# Altium footprint library EsoCore.PcbLib: 105 footprints (part 5 of 7)
Each footprint in its own frame and in the unit in brackets; x right, y up, seen from the top. Pads: shape width x height; smd on the part's side, far side on the other; paste and mask are expansions set on the pad; w line width, h text height; cw(c..) or ccw(c..) is an arc to the next point about the centre after c.
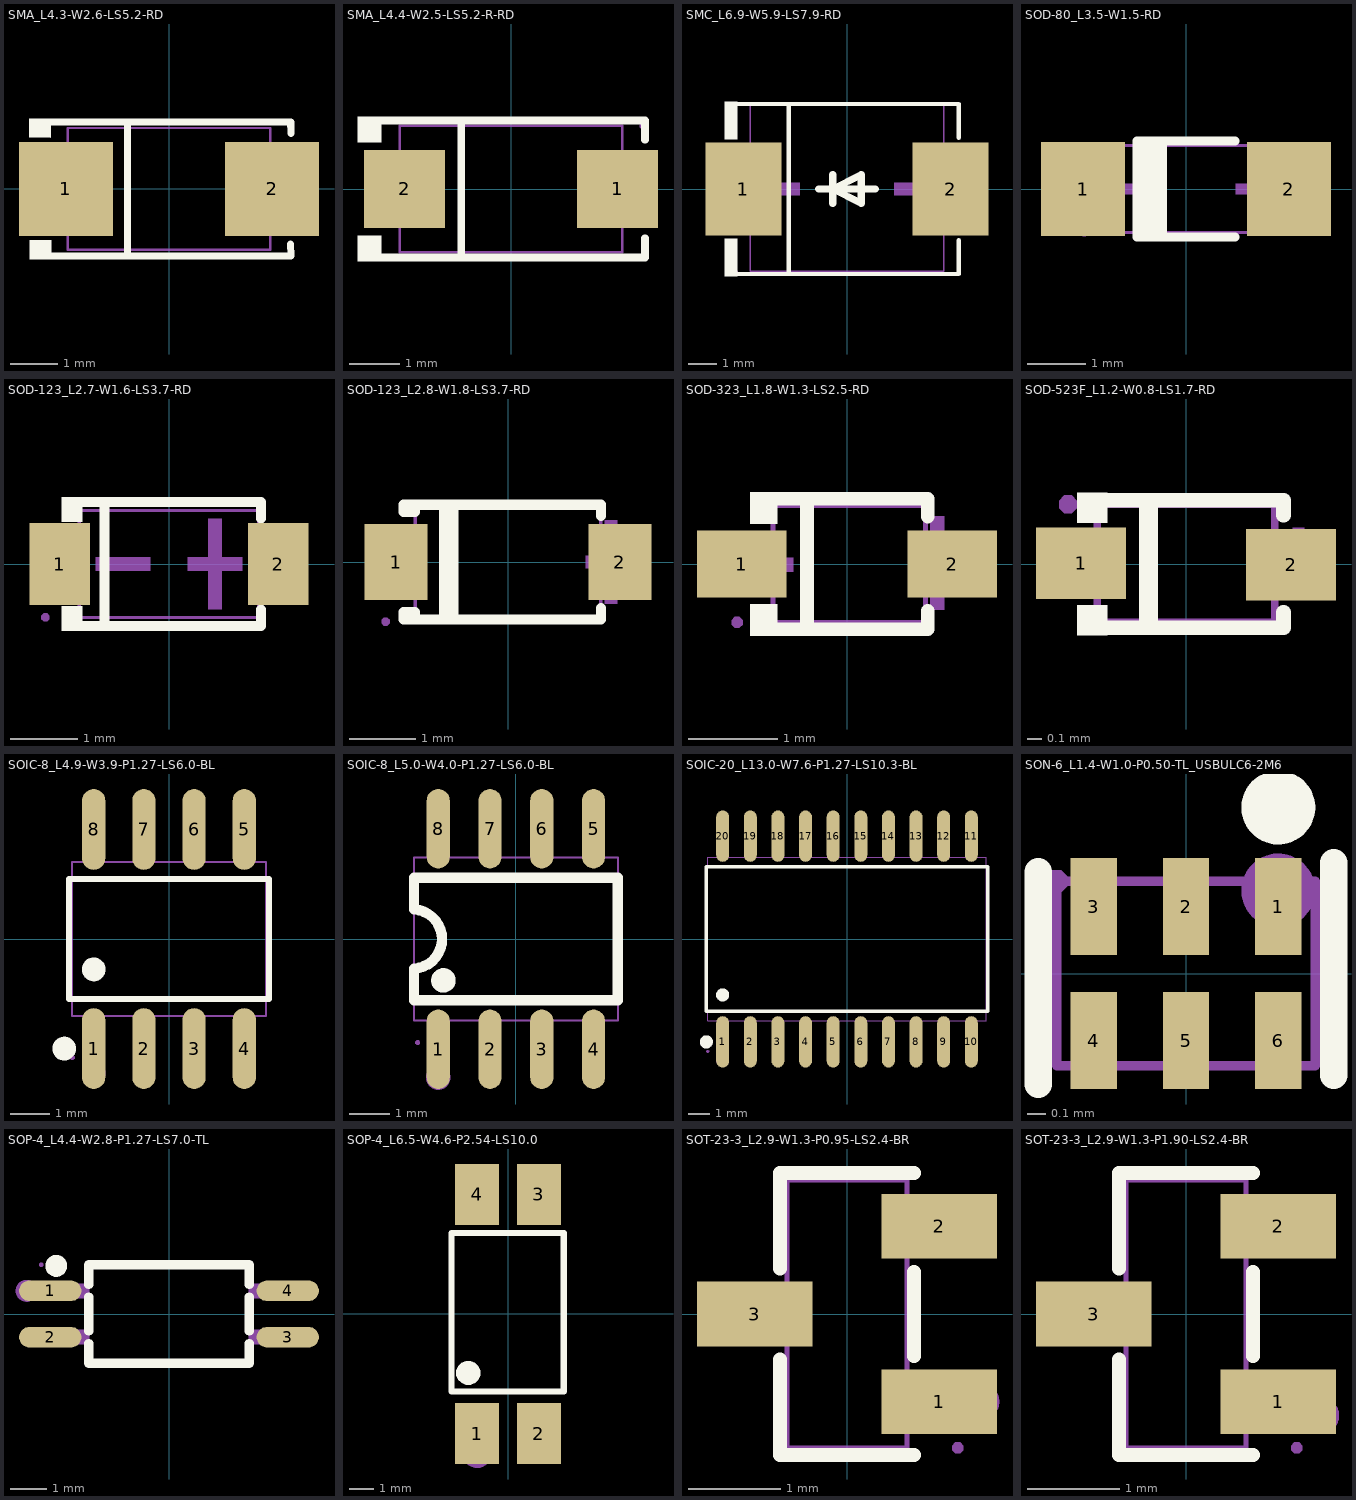
[diagram p4: the footprints below, top view; thin cyan lines are the x and y axes]

## SMA_L4.3-W2.6-LS5.2-RD [mm]
pads (2):
  rect 2x2 smd: 1(-2.2,0) 2(2.2,0)
Top Overlay:
  region: -2.52,1.502 -2.521,1.096 -2.981,1.1 -2.977,1.502
  region: -2.512,-1.096 -2.513,-1.503 -2.973,-1.498 -2.969,-1.096
  lines w0.152: -2.596,-1.426 2.596,-1.426 ; -2.596,1.426 2.596,1.426 2.603,1.187 ; -0.884,-1.426 -0.884,1.426 ; 2.593,-1.176 2.6,-1.415
Mechanical 6:
  region: -2.317,-0.101 -2.317,0.101 -1.507,0.101 -1.507,-0.101
  region: 2.29,-0.09 2.29,0.112 1.48,0.112 1.48,-0.09
  region: 2.014,-0.675 2.014,0.675 1.811,0.675 1.811,-0.675
Mechanical 15:
  region: -2.605,-1.24 -2.58,-1.24 -2.545,-1.275 -2.545,-1.325 -2.58,-1.36 -2.605,-1.36 -2.63,-1.36 -2.665,-1.325 -2.665,-1.275 -2.63,-1.24 -2.605,-1.24
  region: 2.605,0.725 2.605,-0.725 1.48,-0.725 1.48,0.725
  region: -1.48,0.725 -1.48,-0.725 -2.605,-0.725 -2.605,0.725
  lines w0.051: -2.16,-1.3 -2.16,1.3 2.16,1.3 2.16,-1.3 -2.16,-1.3
3D body "smaX.step": height 2.1, standoff 0, extent -2.317,-1.348 2.383,1.252

## SMA_L4.4-W2.5-LS5.2-R-RD [mm]
pads (2):
  rect 1.6x1.539 smd: 1(2.104,0) 2(-2.104,0)
Top Overlay:
  region: -2.57,1.432 -2.57,0.922 -3.027,0.922 -3.027,1.432
  region: -2.57,-1.432 -2.57,-0.922 -3.027,-0.922 -3.027,-1.432
  lines w0.152: -2.646,-1.356 2.646,-1.356 2.646,-0.973 ; -2.646,1.356 2.646,1.356 2.646,0.973 ; -0.987,-1.353 -0.987,1.359
Mechanical 6:
  region: -2.378,-0.096 -2.378,0.096 -1.61,0.096 -1.61,-0.096
  region: 2.378,-0.096 2.378,0.096 1.61,0.096 1.61,-0.096
  region: 2.09,-0.64 2.09,0.64 1.898,0.64 1.898,-0.64
Mechanical 15:
  region: 1.46,-0.7 1.46,0.7 2.6,0.7 2.6,-0.7
  region: -2.6,-0.7 -2.6,0.7 -1.46,0.7 -1.46,-0.7
  region: 2.66,1.25 2.66,1.225 2.625,1.19 2.575,1.19 2.54,1.225 2.54,1.25 2.54,1.275 2.575,1.31 2.625,1.31 2.66,1.275 2.66,1.25
  lines w0.051: -2.2,-1.25 2.2,-1.25 2.2,1.25 -2.2,1.25 -2.2,-1.25
3D body "smaX.step": height 2.1, standoff 0, extent -2.383,-1.298 2.317,1.302

## SMC_L6.9-W5.9-LS7.9-RD [mm]
pads (2):
  rect 2.7x3.3 smd: 1(-3.686,0) 2(3.686,0)
Top Overlay:
  region: -3.9,3.102 -3.9,1.772 -4.357,1.772 -4.357,3.102
  region: -3.9,-3.102 -3.9,-1.772 -4.357,-1.772 -4.357,-3.102
  lines w0.152: -3.976,-3.026 3.976,-3.026 3.976,-1.823 ; -3.976,3.026 3.976,3.026 3.976,1.823 ; -2.069,-3.026 -2.069,3.026
  lines w0.254: -1.016,0 1.016,0 ; -0.508,0.508 -0.508,-0.508 -0.508,0 ; -0.508,0 0.508,-0.508 0.508,0.508 -0.508,0
Mechanical 6:
  region: -3.457,-0.221 -3.457,0.221 -1.687,0.221 -1.687,-0.221
  region: 3.457,-0.221 3.457,0.221 1.687,0.221 1.687,-0.221
  region: 2.794,-1.475 2.794,1.475 2.351,1.475 2.351,-1.475
Mechanical 15:
  region: -3.95,-1.5 -3.95,1.5 -2.7,1.5 -2.7,-1.5
  region: 3.95,-1.5 3.95,1.5 2.7,1.5 2.7,-1.5
  region: -3.95,-3.01 -3.975,-3.01 -4.01,-2.975 -4.01,-2.925 -3.975,-2.89 -3.95,-2.89 -3.925,-2.89 -3.89,-2.925 -3.89,-2.975 -3.925,-3.01 -3.95,-3.01
  lines w0.051: -3.45,-2.921 -3.45,2.979 3.45,2.979 3.45,-2.921 -3.45,-2.921
3D body "SM-C.step": height 2.1, standoff 0, extent -4,-3 4,3

## SOD-80_L3.5-W1.5-RD [mm]
pads (2):
  rect 1.44x1.62 smd: 1(-1.765,0) 2(1.765,0)
Top Overlay:
  region: -0.842,0.801 -0.334,0.801 -0.334,-0.801 -0.842,-0.801
  lines w0.152: 0.842,-0.826 -0.842,-0.826 -0.842,0.826 0.842,0.826
Mechanical 6:
  region: 1.3,-0.6 1.3,0.6 1.12,0.6 1.12,-0.6
  region: 1.57,-0.09 1.57,0.09 0.85,0.09 0.85,-0.09
  region: -1.57,-0.09 -1.57,0.09 -0.85,0.09 -0.85,-0.09
Mechanical 15:
  region: 1.75,-0.75 1.75,0.75 1.28,0.75 1.28,-0.75
  region: -1.75,-0.75 -1.75,0.75 -1.28,0.75 -1.28,-0.75
  region: -1.69,-0.75 -1.69,-0.775 -1.725,-0.81 -1.775,-0.81 -1.81,-0.775 -1.81,-0.75 -1.81,-0.725 -1.775,-0.69 -1.725,-0.69 -1.69,-0.725 -1.69,-0.75
  lines w0.051: -1.75,-0.75 1.75,-0.75 1.75,0.75 -1.75,0.75 -1.75,-0.75
3D body "D80.step": height 1.6, standoff 0, extent -1.651,-0.794 1.651,0.794

## SOD-123_L2.7-W1.6-LS3.7-RD [mm]
pads (2):
  rect 0.91x1.22 smd: 1(-1.635,0) 2(1.635,0)
Top Overlay:
  region: -1.3,1.002 -1.3,0.632 -1.605,0.632 -1.605,1.002
  region: -1.3,-1.002 -1.3,-0.632 -1.605,-0.632 -1.605,-1.002
  lines w0.152: -1.376,-0.926 1.376,-0.926 1.376,-0.683 ; -1.376,0.926 1.376,0.926 1.376,0.683 ; -0.967,-0.926 -0.967,0.926
Mechanical 6:
  region: -1.096,0.102 -1.096,-0.102 -0.28,-0.102 -0.28,0.102
  region: 1.096,0.102 1.096,-0.102 0.28,-0.102 0.28,0.102
  region: 0.79,0.68 0.79,-0.68 0.586,-0.68 0.586,0.68
Mechanical 15:
  region: -1.79,-0.8 -1.79,-0.825 -1.825,-0.86 -1.875,-0.86 -1.91,-0.825 -1.91,-0.8 -1.91,-0.775 -1.875,-0.74 -1.825,-0.74 -1.79,-0.775 -1.79,-0.8
  region: -1.845,0.3 -1.595,0.3 -1.595,-0.3 -1.845,-0.3
  region: 1.595,0.3 1.845,0.3 1.845,-0.3 1.595,-0.3
  region: 1.81,0.3 1.33,0.3 1.33,-0.3 1.81,-0.3
  region: -1.81,-0.3 -1.33,-0.3 -1.33,0.3 -1.81,0.3
  lines w0.051: -1.345,-0.8 -1.345,0.8 1.345,0.8 1.345,-0.8 -1.345,-0.8
3D body "sod-123.step": height 1.27, standoff -0.03, extent -1.85,-0.8 1.85,0.8

## SOD-123_L2.8-W1.8-LS3.7-RD [mm]
pads (2):
  rect 0.95x1.15 smd: 1(-1.692,0) 2(1.692,0)
Top Overlay:
  lines w0.152: -0.97,-0.866 -0.97,0.866 ; -0.827,-0.866 -0.827,0.866 ; 1.406,-0.698 1.406,-0.866 -1.406,-0.866 ; 1.406,0.698 1.406,0.866 -1.406,0.866 ; -1.406,-0.866 -1.58,-0.866 -1.58,-0.755 -1.406,-0.755 -1.406,-0.866 ; -1.406,0.866 -1.58,0.866 -1.58,0.755 -1.406,0.755 -1.406,0.866
Mechanical 6:
  region: -2.03,0.095 -2.03,-0.095 -1.272,-0.095 -1.272,0.095
  region: 1.935,0.098 1.935,-0.092 1.177,-0.092 1.177,0.098
  region: 1.651,0.635 1.651,-0.629 1.461,-0.629 1.461,0.635
Mechanical 15:
  region: -1.79,-0.9 -1.79,-0.925 -1.826,-0.96 -1.875,-0.96 -1.91,-0.925 -1.91,-0.9 -1.91,-0.875 -1.875,-0.84 -1.826,-0.84 -1.79,-0.875 -1.79,-0.9
  region: -1.851,-0.465 -1.851,0.465 -1.301,0.465 -1.301,-0.465
  region: 1.851,-0.465 1.851,0.465 1.301,0.465 1.301,-0.465
  lines w0.051: -1.4,-0.9 -1.4,0.9 1.4,0.9 1.4,-0.9 -1.4,-0.9
3D body "sod123.step": height 1.22, standoff 0, extent -1.84,-0.8 1.84,0.8

## SOD-323_L1.8-W1.3-LS2.5-RD [mm]
pads (2):
  rect 1x0.75 smd: 1(-1.173,0) 2(1.173,0)
Top Overlay:
  region: -0.775,-0.802 -0.775,-0.45 -1.08,-0.45 -1.08,-0.802
  region: -0.775,0.802 -0.775,0.45 -1.08,0.45 -1.08,0.802
  lines w0.152: -0.851,-0.726 0.901,-0.726 0.901,-0.52 ; -0.851,0.726 0.901,0.726 0.901,0.53 ; -0.447,-0.726 -0.447,0.726
Mechanical 6:
  region: 1.083,0.53 1.083,-0.51 0.927,-0.51 0.927,0.53
  region: 1.315,0.09 1.315,-0.066 0.691,-0.066 0.691,0.09
  region: -1.225,0.07 -1.225,-0.086 -0.601,-0.086 -0.601,0.07
Mechanical 15:
  region: -0.815,0.16 -0.815,-0.16 -0.935,-0.16 -0.935,0.16
  region: -0.925,0.16 -0.925,-0.16 -1.225,-0.16 -1.225,0.16
  region: 0.985,0.16 0.985,-0.16 0.865,-0.16 0.865,0.16
  region: 1.275,0.16 1.275,-0.16 0.975,-0.16 0.975,0.16
  region: -1.165,-0.65 -1.165,-0.675 -1.2,-0.71 -1.25,-0.71 -1.285,-0.675 -1.285,-0.65 -1.285,-0.625 -1.25,-0.59 -1.2,-0.59 -1.165,-0.625 -1.165,-0.65
  lines w0.051: -0.825,-0.65 -0.825,0.65 0.875,0.65 0.875,-0.65 -0.825,-0.65
3D body "DIODEX.step": height 0.95, standoff 0, extent -1.325,-0.65 1.325,0.65

## SOD-523F_L1.2-W0.8-LS1.7-RD [mil]
pads (2):
  rect 24x19 smd: 1(-28,0.2) 2(28,-0.2)
Top Overlay:
  region: -12.51,-16.5 -12.51,16.5 -7.5,16.5 -7.5,-16.5
  region: -21,19 -25,19 -29,19 -29,11 -21,11
  region: -21,-11 -25,-11 -29,-11 -29,-19 -21,-19
  lines w3.94: -26,17 26,17 26,13 ; 25.99,-12.84 25.99,-17 -26.01,-17 ; -26.01,-17 -26,-17
Mechanical 6:
  region: -35.01,4.16 -19,4.16 -19,0.16 -35.01,0.16
  region: 22,3.16 38.99,3.16 38.99,0.16 22,0.16
  region: 28.5,-7.34 28.5,9.66 31.5,9.66 31.5,-7.34
Mechanical 15:
  region: -29.14,15.91 -29.14,14.93 -30.52,13.55 -32.48,13.55 -33.86,14.93 -33.86,15.91 -33.86,16.89 -32.48,18.27 -30.52,18.27 -29.14,16.89 -29.14,15.91
  region: -20,6.1 -31.5,6.1 -31.5,-5.71 -20,-5.71
  region: 20,-5.85 31.49,-5.85 31.49,5.96 20,5.96
  lines w2: -23.63,-15.59 23.62,-15.59 23.62,15.91 -23.63,15.91 -23.63,-15.59
3D body "sod523.step": height 24.02, standoff 0, extent -31.5,-15.59 31.49,15.91

## SOIC-8_L4.9-W3.9-P1.27-LS6.0-BL [mm]
pads (8):
  oval 0.588x2.045 smd: 1(-1.905,-2.772) 2(-0.635,-2.772) 3(0.635,-2.772) 4(1.905,-2.772) 5(1.905,2.772) 6(0.635,2.772) 7(-0.635,2.772) 8(-1.905,2.772)
Top Overlay:
  circle w0.3: c-2.652,-2.772 r0.15
  circle w0.3: c-1.905,-0.769 r0.15
  lines w0.152: -2.526,-1.521 2.526,-1.521 2.526,1.521 -2.526,1.521 -2.526,-1.521
Mechanical 6:
  circle w0.3: c-1.905,-3.4 r0.15
Mechanical 15:
  region: 1.695,2.175 1.695,1.94 2.115,1.94 2.115,2.175
  region: 1.695,3 1.695,2.165 2.115,2.165 2.115,3
  region: 0.425,2.175 0.425,1.94 0.845,1.94 0.845,2.175
  region: 0.425,3 0.425,2.165 0.845,2.165 0.845,3
  region: -0.845,2.175 -0.845,1.94 -0.425,1.94 -0.425,2.175
  region: -0.845,3 -0.845,2.165 -0.425,2.165 -0.425,3
  region: -2.115,2.175 -2.115,1.94 -1.695,1.94 -1.695,2.175
  region: -2.115,3 -2.115,2.165 -1.695,2.165 -1.695,3
  region: 1.695,-2.175 1.695,-1.94 2.115,-1.94 2.115,-2.175
  region: 1.695,-3 1.695,-2.165 2.115,-2.165 2.115,-3
  region: 0.425,-2.175 0.425,-1.94 0.845,-1.94 0.845,-2.175
  region: 0.425,-3 0.425,-2.165 0.845,-2.165 0.845,-3
  region: -0.845,-2.175 -0.845,-1.94 -0.425,-1.94 -0.425,-2.175
  region: -0.845,-3 -0.845,-2.165 -0.425,-2.165 -0.425,-3
  region: -2.115,-2.175 -2.115,-1.94 -1.695,-1.94 -1.695,-2.175
  region: -2.115,-3 -2.115,-2.165 -1.695,-2.165 -1.695,-3
  region: -2.39,-3 -2.39,-3.025 -2.425,-3.06 -2.475,-3.06 -2.51,-3.025 -2.51,-3 -2.51,-2.975 -2.475,-2.94 -2.425,-2.94 -2.39,-2.975 -2.39,-3
  lines w0.051: -2.45,-1.95 2.45,-1.95 2.45,1.95 -2.45,1.95 -2.45,-1.95
3D body "soic-8.step": height 1.72, standoff 0, extent -2.408,-3 2.407,3

## SOIC-8_L5.0-W4.0-P1.27-LS6.0-BL [mil]
pads (8):
  oval 22.38x76.78 smd: 1(-75,-106.5) 2(-25,-106.5) 3(25,-106.5) 4(75,-106.5) 5(75,106.5) 6(25,106.5) 7(-25,106.5) 8(-75,106.5)
Top Overlay:
  circle w11.81: c-70,-40 r5.91
  lines w10: -98.43,-28.61 ccw(c-99.99,0) -98.23,28.59 ; -98.42,-28.61 -98.42,-59.05 98.42,-59.05 98.42,59.05 -98.42,59.05 -98.42,28.59
Mechanical 6:
  circle w11.81: c-75,-133.86 r5.91
Mechanical 15:
  region: -92.64,-100 -92.64,-100.98 -94.02,-102.36 -95.98,-102.36 -97.36,-100.98 -97.36,-100 -97.36,-99.02 -95.98,-97.64 -94.02,-97.64 -92.64,-99.02 -92.64,-100
  region: 66.93,76.38 66.93,85.63 83.07,85.63 83.07,76.38
  region: 66.93,85.24 66.93,118.11 83.07,118.11 83.07,85.24
  region: 16.93,76.38 16.93,85.63 33.07,85.63 33.07,76.38
  region: 16.93,85.24 16.93,118.11 33.07,118.11 33.07,85.24
  region: -33.07,76.38 -33.07,85.63 -16.93,85.63 -16.93,76.38
  region: -33.07,85.24 -33.07,118.11 -16.93,118.11 -16.93,85.24
  region: -83.07,76.38 -83.07,85.63 -66.93,85.63 -66.93,76.38
  region: -83.07,85.24 -83.07,118.11 -66.93,118.11 -66.93,85.24
  region: 66.93,-85.63 66.93,-76.38 83.07,-76.38 83.07,-85.63
  region: 66.93,-118.11 66.93,-85.24 83.07,-85.24 83.07,-118.11
  region: 16.93,-85.63 16.93,-76.38 33.07,-76.38 33.07,-85.63
  region: 16.93,-118.11 16.93,-85.24 33.07,-85.24 33.07,-118.11
  region: -33.07,-85.63 -33.07,-76.38 -16.93,-76.38 -16.93,-85.63
  region: -33.07,-118.11 -33.07,-85.24 -16.93,-85.24 -16.93,-118.11
  region: -83.07,-85.63 -83.07,-76.38 -66.93,-76.38 -66.93,-85.63
  region: -83.07,-118.11 -83.07,-85.24 -66.93,-85.24 -66.93,-118.11
  lines w2: -98.42,-78.74 -98.42,78.74 98.42,78.74 98.42,-78.74 -98.42,-78.74
3D body "soic-8.step": height 67.68, standoff 0, extent -94.78,-118.11 94.78,118.11

## SOIC-20_L13.0-W7.6-P1.27-LS10.3-BL [mm]
pads (20):
  oval 0.595x2.36 smd: 1(-5.715,-4.73) 2(-4.445,-4.73) 3(-3.175,-4.73) 4(-1.905,-4.73) 5(-0.635,-4.73) 6(0.635,-4.73) 7(1.905,-4.73) 8(3.175,-4.73) 9(4.445,-4.73) 10(5.715,-4.73) 11(5.715,4.73) 12(4.445,4.73) 13(3.175,4.73) 14(1.905,4.73) 15(0.635,4.73) 16(-0.635,4.73) 17(-1.905,4.73) 18(-3.175,4.73) 19(-4.445,4.73) 20(-5.715,4.73)
Top Overlay:
  circle w0.3: c-5.715,-2.569 r0.15
  circle w0.3: c-6.465,-4.73 r0.15
  lines w0.152: -6.476,-3.321 -6.476,3.321 6.476,3.321 6.476,-3.321 -6.476,-3.321
Mechanical 6:
  circle w0.3: c-5.715,-5.563 r0.15
Mechanical 15:
  drawing of 45 lines, arcs and shapes, not listed
3D body "MODBUSX.step": height 2.85, standoff 0, extent -6.4,-5.203 6.4,5.203

## SON-6_L1.4-W1.0-P0.50-TL_USBULC6-2M6 [mm]
pads (6):
  rect 0.25x0.525 smd paste+0 mask+0.05: 1(0.5,0.362) 2(0,0.362) 3(-0.5,0.362) 4(-0.5,-0.362) 5(0,-0.362) 6(0.5,-0.362)
Top Overlay:
  circle w0.2: c0.5,0.9 r0.1
  lines w0.15: -0.8,-0.6 -0.8,0.55 ; 0.8,-0.55 0.8,0.6
Mechanical 6:
  circle w0.2: c0.5,0.45 r0.1
Mechanical 15:
  region: -0.6,0.125 -0.6,0.425 -0.4,0.425 -0.4,0.125
  region: -0.1,0.125 -0.1,0.425 0.1,0.425 0.1,0.125
  region: 0.4,0.125 0.4,0.425 0.6,0.425 0.6,0.125
  region: 0.4,-0.425 0.4,-0.125 0.6,-0.125 0.6,-0.425
  region: -0.1,-0.425 -0.1,-0.125 0.1,-0.125 0.1,-0.425
  region: -0.6,-0.425 -0.6,-0.125 -0.4,-0.125 -0.4,-0.425
  region: -0.64,0.5 -0.64,0.475 -0.675,0.44 -0.725,0.44 -0.76,0.475 -0.76,0.5 -0.76,0.525 -0.725,0.56 -0.675,0.56 -0.64,0.525 -0.64,0.5
  lines w0.051: -0.7,-0.5 0.7,-0.5 0.7,0.5 -0.7,0.5 -0.7,-0.5
3D body "ESDX2X.step": height 0.41, standoff 0, extent -0.657,-0.518 0.743,0.482

## SOP-4_L4.4-W2.8-P1.27-LS7.0-TL [mm]
pads (4):
  oval 1.71x0.56 smd: 1(-3.255,0.635) 2(-3.255,-0.635) 3(3.255,-0.635) 4(3.255,0.635)
Top Overlay:
  circle w0.3: c-3.09,1.319 r0.15
  lines w0.254: -2.2,-0.806 -2.2,-1.35 2.2,-1.35 2.2,-0.806 ; -2.2,-0.464 -2.2,0.464 ; -2.2,0.806 -2.2,1.35 2.2,1.35 2.2,0.806 ; 2.2,-0.464 2.2,0.464
Mechanical 6:
  circle w0.3: c-3.9,0.635 r0.15
Mechanical 15:
  region: 2.96,-0.435 2.19,-0.435 2.19,-0.835 2.96,-0.835
  region: 3.5,-0.435 2.95,-0.435 2.95,-0.835 3.5,-0.835
  region: 2.96,0.835 2.19,0.835 2.19,0.435 2.96,0.435
  region: 3.5,0.835 2.95,0.835 2.95,0.435 3.5,0.435
  region: -2.96,-0.435 -2.19,-0.435 -2.19,-0.835 -2.96,-0.835
  region: -3.5,-0.435 -2.95,-0.435 -2.95,-0.835 -3.5,-0.835
  region: -2.96,0.835 -2.19,0.835 -2.19,0.435 -2.96,0.435
  region: -3.5,0.835 -2.95,0.835 -2.95,0.435 -3.5,0.435
  region: -3.44,1.35 -3.44,1.325 -3.475,1.29 -3.525,1.29 -3.56,1.325 -3.56,1.35 -3.56,1.375 -3.525,1.41 -3.475,1.41 -3.44,1.375 -3.44,1.35
  lines w0.051: -2.2,-1.35 2.2,-1.35 2.2,1.35 -2.2,1.35 -2.2,-1.35
3D body "OPTOP.step": height 2.1, standoff 0, extent -3.503,-1.3 3.503,1.3

## SOP-4_L6.5-W4.6-P2.54-LS10.0 [mm]
pads (4):
  rect 1.8x2.5 smd paste+0 mask+0.051: 1(-1.27,-4.9) 2(1.27,-4.9) 3(1.27,4.9) 4(-1.27,4.9)
Top Overlay:
  region: -1.628,-2.9 -1.531,-2.9 -1.353,-2.825 -1.217,-2.688 -1.143,-2.51 -1.143,-2.316 -1.217,-2.138 -1.354,-2.001 -1.533,-1.927 -1.726,-1.927 -1.904,-2.001 -2.041,-2.138 -2.115,-2.316 -2.116,-2.51 -2.042,-2.688 -1.905,-2.825 -1.727,-2.9 -1.63,-2.9
  lines w0.254: -2.314,-3.175 -2.314,3.325 2.286,3.325 2.286,-3.175 -2.314,-3.175
Mechanical 15:
  circle w0.6: c-1.27,-5.715 r0.3
3D body "OPTOX.step": height 3.6, standoff 0, extent -2.28,-4.995 2.32,5.005

## SOT-23-3_L2.9-W1.3-P0.95-LS2.4-BR [mm]
pads (3):
  rect 1.25x0.7 smd: 1(1,-0.95) 2(1,0.95) 3(-1,0)
Top Overlay:
  lines w0.152: -0.726,-0.495 -0.726,-1.526 0.726,-1.526 ; -0.726,0.495 -0.726,1.526 0.726,1.526 ; 0.726,-0.455 0.726,0.455
Mechanical 6:
  circle w0.2: c1.45,-0.95 r0.1
Mechanical 15:
  region: -1.2,-0.2 -1.2,0.2 -0.8,0.2 -0.8,-0.2
  region: -0.81,-0.2 -0.81,0.2 -0.64,0.2 -0.64,-0.2
  region: 0.8,0.75 0.8,1.15 1.2,1.15 1.2,0.75
  region: 0.64,0.75 0.64,1.15 0.81,1.15 0.81,0.75
  region: 0.8,-1.15 0.8,-0.75 1.2,-0.75 1.2,-1.15
  region: 0.64,-1.15 0.64,-0.75 0.81,-0.75 0.81,-1.15
  region: 1.26,-1.45 1.26,-1.475 1.225,-1.51 1.175,-1.51 1.14,-1.475 1.14,-1.45 1.14,-1.425 1.175,-1.39 1.225,-1.39 1.26,-1.425 1.26,-1.45
  lines w0.051: -0.65,-1.45 0.65,-1.45 0.65,1.45 -0.65,1.45 -0.65,-1.45
3D body "sot23.step": height 1.05, standoff 0, extent -1.253,-1.45 1.253,1.45

## SOT-23-3_L2.9-W1.3-P1.90-LS2.4-BR [mm]
pads (3):
  rect 1.25x0.7 smd: 1(1,-0.95) 2(1,0.95) 3(-1,0)
Top Overlay:
  lines w0.152: -0.726,-0.495 -0.726,-1.526 0.726,-1.526 ; -0.726,0.495 -0.726,1.526 0.726,1.526 ; 0.726,-0.455 0.726,0.455
Mechanical 6:
  circle w0.2: c1.46,-1.1 r0.1
Mechanical 15:
  region: 1.26,-1.45 1.26,-1.475 1.225,-1.51 1.175,-1.51 1.14,-1.475 1.14,-1.45 1.14,-1.425 1.175,-1.39 1.225,-1.39 1.26,-1.425 1.26,-1.45
  region: 0.64,0.735 0.64,1.165 0.91,1.165 0.91,0.735
  region: 0.9,0.735 0.9,1.165 1.2,1.165 1.2,0.735
  region: 0.64,-1.165 0.64,-0.735 0.91,-0.735 0.91,-1.165
  region: 0.9,-1.165 0.9,-0.735 1.2,-0.735 1.2,-1.165
  region: -0.91,-0.215 -0.91,0.215 -0.64,0.215 -0.64,-0.215
  region: -1.2,-0.215 -1.2,0.215 -0.9,0.215 -0.9,-0.215
  lines w0.051: -0.65,-1.45 -0.65,1.45 0.65,1.45 0.65,-1.45 -0.65,-1.45
3D body "sot23X.step": height 1.05, standoff 0, extent -1.126,-1.45 1.38,1.45